# Altium footprint library 3557-2.PcbLib: 1 footprints
Each footprint in its own frame and in the unit in brackets; x right, y up, seen from the top. Pads: shape width x height; smd on the part's side, far side on the other; paste and mask are expansions set on the pad; w line width, h text height; cw(c..) or ccw(c..) is an arc to the next point about the centre after c.
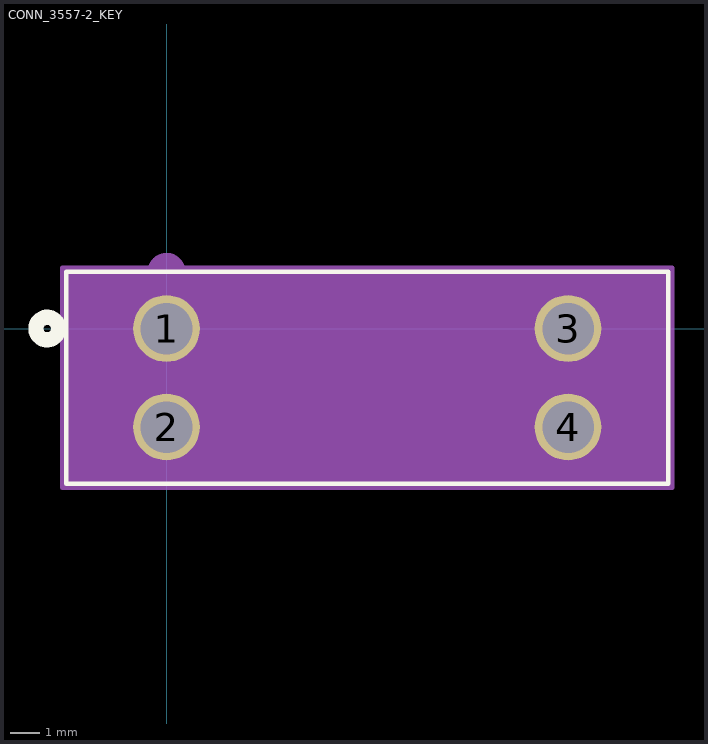
[diagram p0: the footprint, top view; thin cyan lines are the x and y axes]

## CONN_3557-2_KEY [mil]
pads (4):
  round 88 hole 68 mask+0: 1(0,0) 2(0,-130) 3(530,0) 4(530,-130)
Top Overlay:
  circle w20: c-157.5,0 r15
  lines w6: -132.5,-205 -132.5,75 662.5,75 662.5,-205 -132.5,-205
Bottom Overlay:
  circle w20: c-157.5,0 r15
Mechanical 13:
  circle w20: c0,75 r15
  lines w1: -127.5,-200 -127.5,70 657.5,70 657.5,-200 -127.5,-200
Mechanical 15:
  region: 667.5,80 -137.5,80 -137.5,-210 667.5,-210
  lines w6: -137.5,-210 667.5,-210 667.5,80 -137.5,80 -137.5,-210
3D body: height 290, standoff 0, extent -135,-205 665,75
3D body: height 10, standoff 0, extent 0,0 10,10